# Altium schematic symbol library RBQ10RSM10BTL1.SchLib: 1 symbol
Pins are listed as number, name and electrical type; pins without a type are passive.

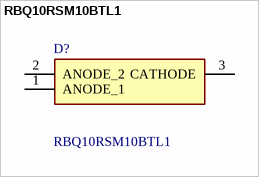
[diagram p0: symbol RBQ10RSM10BTL1]

## RBQ10RSM10BTL1
designator D?
ROHM - RBQ10RSM10BTL1 - Schottky Rectifier, 100 V, 10 A, Single, TO-277A, 3 Pins, 700 mV; Manufacturer_Name: ROHM Semiconductor; Geometry.Height: 1.2mm; Mouser Part Number: 755-RBQ10RSM10BTL1; Mouser Price/Stock: https://www.mouser.co.uk/ProductDetail/ROHM-Semiconductor/RBQ10RSM10BTL1?qs=By6Nw2ByBD32XqLLiYWNKA%3D%3D; Manufacturer_Part_Number: RBQ10RSM10BTL1; Datasheet Link: https://fscdn.rohm.com/en/products/databook/datasheet/discrete/diode/schottky_barrier/rbq10rsm10btl1-e.pdf
footprint RBQ10RSM10BTL1
pins: 1 ANODE_1, 2 ANODE_2, 3 CATHODE